# Altium footprint library RGEF400.PcbLib: 1 footprints
Each footprint in its own frame and in the unit in brackets; x right, y up, seen from the top. Pads: shape width x height; smd on the part's side, far side on the other; paste and mask are expansions set on the pad; w line width, h text height; cw(c..) or ccw(c..) is an arc to the next point about the centre after c.
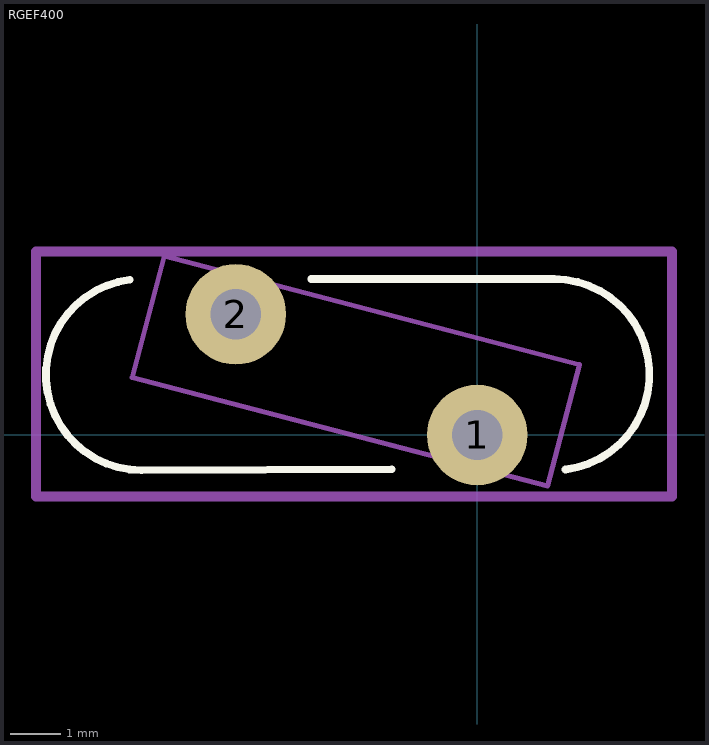
[diagram p0: the footprint, top view; thin cyan lines are the x and y axes]

## RGEF400 [mm]
pads (2):
  round 2 hole 1: 1(0,0) 2(-4.8,2.4)
Top Overlay:
  lines w0.152: -6.907,3.086 ccw(c-6.675,1.2) -6.675,-0.7 -1.702,-0.678 ; -3.301,3.1 1.525,3.1 ; 1.524,3.1 cw(c1.524,1.2) 1.756,-0.686
Top Assembly:
  lines w0.1: -6.858,1.143 1.397,-1.016 2.032,1.397 -6.223,3.556 -6.858,1.143
Top Courtyard:
  lines w0.2: -8.775,-1.225 -8.775,3.65 3.875,3.65 3.875,-1.225 -8.775,-1.225
3D body "RGEF400.stp": height 12, standoff -5, extent -6.842,-1.037 2.016,3.577